# EAGLE library part ABC1 (library radiotubes)
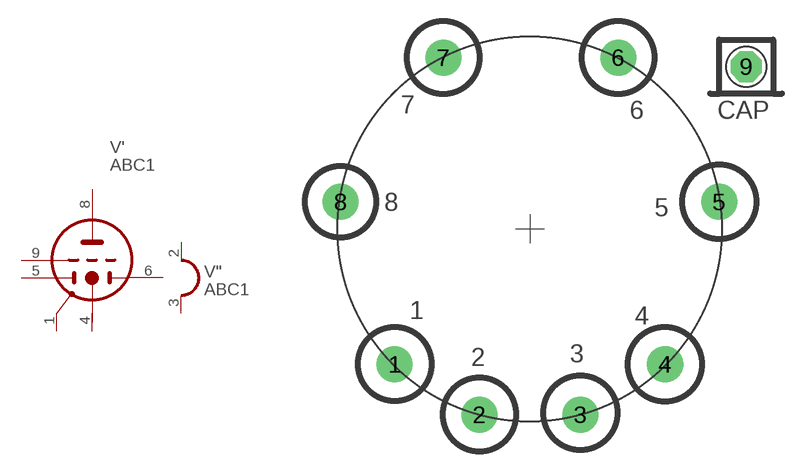
[diagram p140: symbol with the pads of P8CAP; footprint P8CAP]

Designator prefix V; gates '=DD-TRI-S "=HEATER_1

## ABC1  [P8CAP]
1  ':S  pas
2  ":H1  pas
3  ":H2  pas
4  ':K  pas
5  ':D1  pas
6  ':D2  pas
8  ':A  pas
9  ':G  pas

## Footprint P8CAP (pad centres in mm)
drill 1.27 pad 2.54: 1 -9.525,-9.525; 2 -3.556,-13.081; 3 3.556,-13.081; 4 9.525,-9.525; 5 13.335,1.905; 6 6.223,12.065; 7 -6.096,12.065; 8 -13.335,1.905
drill 0.813 pad 2.184 octagon: 9 15.24,11.43